# Altium integrated library 500SSP1S2M2QEA.IntLib: 1 symbol
Pins are listed as number, name and electrical type; pins without a type are passive.

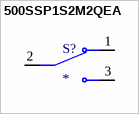
[diagram p0: symbol 500SSP1S2M2QEA]

## 500SSP1S2M2QEA
designator S?
Slide Switch SPDT Through Hole; MP: 500SSP1S2M2QEA; Package: None; Value: *; Price: None; Availability: Unavailable
footprint SW_500SSP1S2M2QEA
pins: 1 NC, 2 COM, 3 NO